# EAGLE library part 691411710003 (library Wuerth_Elektronik_eiCan_Terminal_Blocks_v2.0)
WR-TBL Serie 411 - 5.0mm Screwless Horizontal Entry - 2 mm2 Wires, 3 Pins
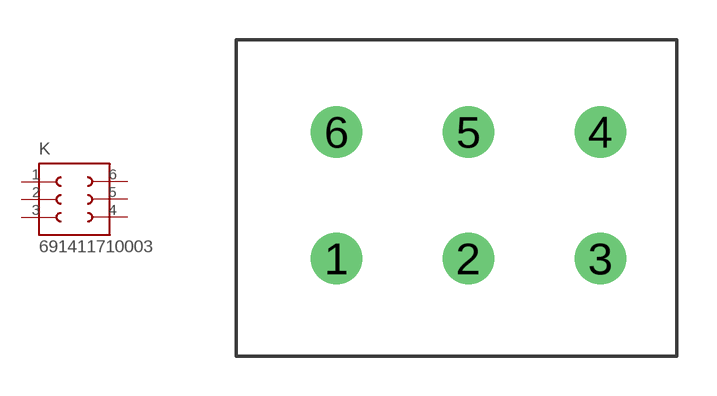
[diagram p302: symbol with the pads of 691411710003; footprint 691411710003]

Designator prefix K

## 691411710003  [691411710003]
1  1  pas
2  2  pas
3  3  pas
4  4  pas
5  5  pas
6  6  pas

## Footprint 691411710003 (pad centres in mm)
WR-TBL Serie 411 - 5.0mm Screwless Horizontal Entry - 2 mm2 Wires, 3 Pins
drill 1.3 round: 1 -5,0; 2 0,0; 3 5,0; 4 5,4.8; 5 0,4.8; 6 -5,4.8